# Altium schematic symbol library AltiumDesigner.SchLib: 2 symbols
Pins are listed as number, name and electrical type; pins without a type are passive.

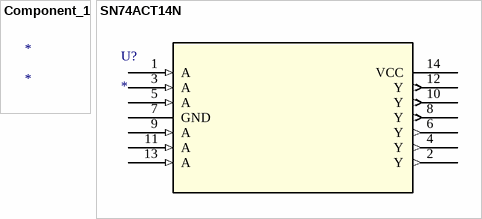
[diagram p0: symbols Component_1 to SN74ACT14N]

## Component_1
designator *

## SN74ACT14N
designator U?
Imported; Manufacturer_Part_Number: SN74ACT14N; Vendor: Texas Instruments; Built_By: EMA_UL_Team; C: Copyright (C) 2015 Accelerated Designs. All rights reserved; RefDes: RefDes; Type: DEV; Value: Value
footprint N14
pins: 1 A (in), 2 Y (out), 3 A (in), 4 Y (out), 5 A (in), 6 Y (out), 7 GND (power), 8 Y (out), 9 A (in), 10 Y (out), 11 A (in), 12 Y (out), 13 A (in), 14 VCC (power)